# Altium footprint library Main.PcbLib: 19 footprints (part 1 of 2)
Each footprint in its own frame and in the unit in brackets; x right, y up, seen from the top. Pads: shape width x height; smd on the part's side, far side on the other; paste and mask are expansions set on the pad; w line width, h text height; cw(c..) or ccw(c..) is an arc to the next point about the centre after c.
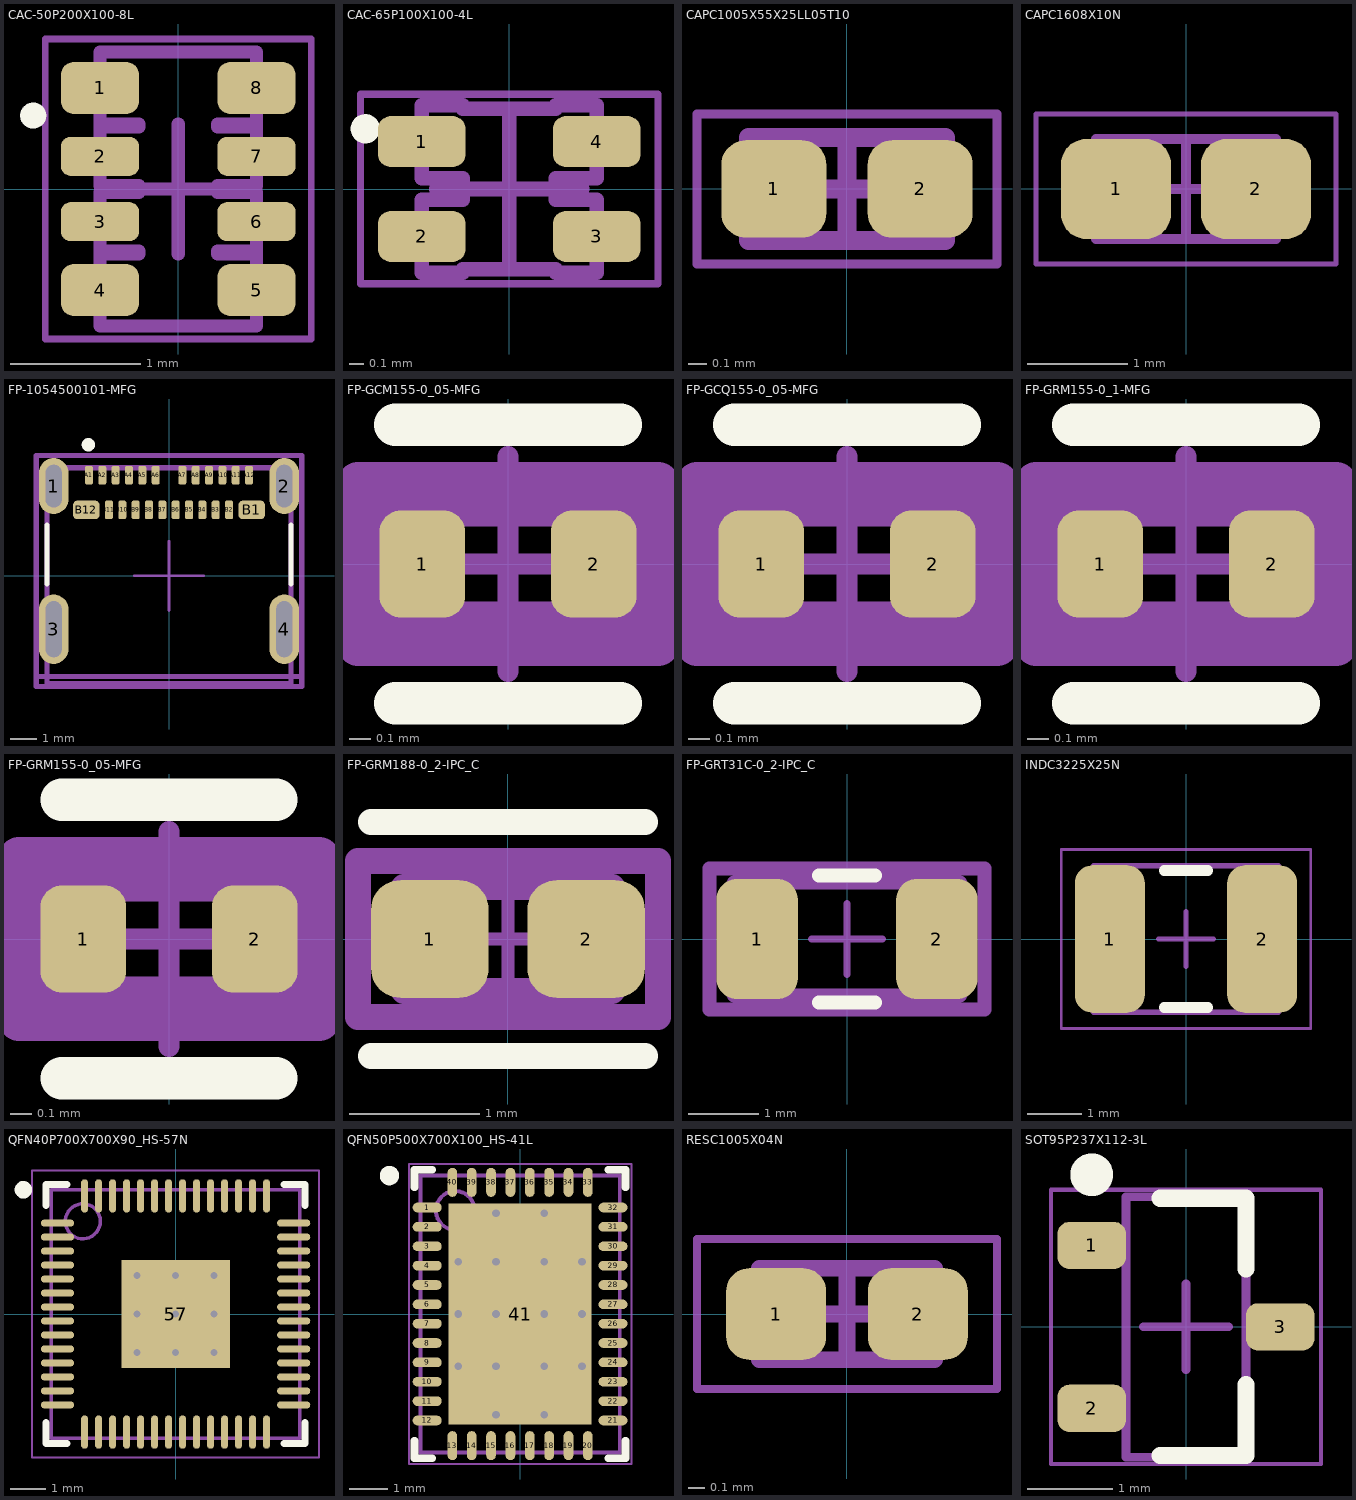
[diagram p0: the footprints below, top view; thin cyan lines are the x and y axes]

## CAC-50P200X100-8L [mm] "Chip Array, ConvexS, 8-Leads, Pitch 0.50mm,  Body 2.00x1.00mm,  IPC High Density"
height 0.45
pads (8):
  rrect50% 0.6x0.4 smd: 1(-0.6,0.775) 4(-0.6,-0.775) 5(0.6,-0.775) 8(0.6,0.775)
  rrect50% 0.6x0.3 smd: 2(-0.6,0.25) 3(-0.6,-0.25) 6(0.6,-0.25) 7(0.6,0.25)
Top Overlay:
  circle w0.1: c-1.112,0.563 r0.05
Top Assembly:
  lines w0.1: -0.6,-1.05 -0.6,-0.5 -0.3,-0.5 -0.3,-0.475 -0.6,-0.475 -0.6,-0.025 -0.3,-0.025 -0.3,0.025 -0.6,0.025 -0.6,0.475 -0.3,0.475 -0.3,0.5 -0.6,0.5 -0.6,1.05 0.6,1.05 0.6,0.5 0.3,0.5 0.3,0.475 0.6,0.475 0.6,0.025 0.3,0.025 0.3,-0.025 0.6,-0.025 0.6,-0.475 0.3,-0.475 0.3,-0.5 0.6,-0.5 0.6,-1.05 -0.6,-1.05
Top Courtyard:
  lines w0.05: -1.02,-1.15 -1.02,1.15 1.02,1.15 1.02,-1.15 -1.02,-1.15
  lines w0.1: -0.5,0 0.5,0 ; 0,-0.5 0,0.5
3D body "CAC-50P200X100-8L.step": height 0.45, standoff 0, extent -0.6,-1.05 0.6,1.05

## CAC-65P100X100-4L [mm] "Chip Array, ConvexE, 4-Leads, Pitch 0.65mm,  Body 1.00x1.00mm,  IPC High Density"
height 0.45
pads (4):
  rrect50% 0.6x0.35 smd: 1(-0.6,0.325) 2(-0.6,-0.325) 3(0.6,-0.325) 4(0.6,0.325)
Top Overlay:
  circle w0.1: c-0.987,0.413 r0.05
Top Assembly:
  lines w0.1: -0.6,-0.575 -0.6,-0.075 -0.32,-0.075 -0.32,0.075 -0.6,0.075 -0.6,0.575 -0.32,0.575 -0.32,0.55 0.32,0.55 0.32,0.575 0.6,0.575 0.6,0.075 0.32,0.075 0.32,-0.075 0.6,-0.075 0.6,-0.575 0.32,-0.575 0.32,-0.55 -0.32,-0.55 -0.32,-0.575 -0.6,-0.575
Top Courtyard:
  lines w0.05: -1.02,-0.65 -1.02,0.65 1.02,0.65 1.02,-0.65 -1.02,-0.65
  lines w0.1: -0.5,0 0.5,0 ; 0,-0.5 0,0.5
3D body "CAC-65P100X100-4L.step": height 0.45, standoff 0, extent -0.6,-0.55 0.6,0.55

## CAPC1005X55X25LL05T10 [mm] "Chip Capacitor, 2-Leads, Body 1.00x0.50mm, IPC High Density"
height 0.55
pads (2):
  rrect50% 0.56x0.52 smd: 1(-0.39,0) 2(0.39,0)
Mechanical 13:
  lines w0.1: -0.525,-0.275 0.525,-0.275 0.525,0.275 -0.525,0.275 -0.525,-0.275
Mechanical 15:
  lines w0.05: -0.8,-0.4 0.8,-0.4 0.8,0.4 -0.8,0.4 -0.8,-0.4
  lines w0.1: -0.275,0 0.275,0 ; 0,-0.275 0,0.275
3D body: height 0.55, standoff 0, extent 0.275,-0.275 0.525,0.275
3D body: height 0.55, standoff 0, extent -0.525,-0.275 -0.275,0.275
3D body: height 0.55, standoff 0, extent -0.275,-0.275 0.275,0.275

## CAPC1608X10N [mm] "Chip Capacitor, 2-Leads, Body 1.60x0.80mm, IPC Medium Density"
height 1
pads (2):
  rrect50% 1.1x1 smd: 1(-0.7,0) 2(0.7,0)
Top Assembly:
  lines w0.1: -0.9,-0.5 0.9,-0.5 0.9,0.5 -0.9,0.5 -0.9,-0.5
Top Courtyard:
  lines w0.05: -1.5,-0.75 1.5,-0.75 1.5,0.75 -1.5,0.75 -1.5,-0.75
  lines w0.1: -0.5,0 0.5,0 ; 0,-0.5 0,0.5
3D body "CAPC1608X10N.step": height 1, standoff 0, extent -0.9,-0.5 0.9,0.5

## FP-1054500101-MFG [mm]
pads (28):
  rrect100% 1.1x2.1 hole 1.6 slot 0.6 at 0 deg paste-1000 mask+0: 1(-4.32,3.36) 2(4.32,3.36)
  rrect100% 1.1x2.6 hole 2.1 slot 0.6 at 0 deg paste-1000 mask+0: 3(-4.32,-2) 4(4.32,-2)
  rrect50% 0.3x0.7 smd paste+0 mask+0: A1(-3,3.77) A2(-2.5,3.77) A3(-2,3.77) A4(-1.5,3.77) A5(-1,3.77) A6(-0.5,3.77) A7(0.5,3.77) A8(1,3.77) A9(1.5,3.77) A10(2,3.77) A11(2.5,3.77) A12(3,3.77) B2(2.25,2.47) B3(1.75,2.47) B4(1.25,2.47) B5(0.75,2.47) B6(0.25,2.47) B7(-0.25,2.47) B8(-0.75,2.47) B9(-1.25,2.47) B10(-1.75,2.47) B11(-2.25,2.47)
  rrect50% 1x0.7 smd paste+0 mask+0: B1(3.1,2.47) B12(-3.1,2.47)
Top Overlay:
  circle w0.25: c-3.02,4.91 r0.125
  lines w0.2: -4.57,-0.3 -4.57,1.9 ; 4.57,-0.3 4.57,1.9
Top 3D Body:
  lines w0.2: -4.97,-3.77 4.97,-3.77 ; -4.57,-4.05 -4.57,4.05 4.57,4.05 4.57,-4.05 -4.57,-4.05
Top Assembly:
  lines w0.2: -4.97,-4.15 -4.97,4.51 4.97,4.51 4.97,-4.15 -4.97,-4.15
Top Courtyard:
  lines w0.2: -4.97,-4.15 -4.97,4.51 4.97,4.51 4.97,-4.15 -4.97,-4.15
Top Component Center:
  lines w0.1: -1.299,0 1.299,0 ; 0,-1.299 0,1.299
3D body "1054500101.stp": height 3.23, standoff -0.73, extent -4.47,-3.9 4.47,4

## FP-GCM155-0_05-MFG [mm]
pads (2):
  rrect50% 0.4x0.5 smd paste+0 mask+0: 1(-0.4,0) 2(0.4,0)
Top Overlay:
  lines w0.2: -0.525,-0.65 0.525,-0.65 ; -0.525,0.65 0.525,0.65
Top 3D Body:
  lines w0.2: -0.525,-0.275 -0.525,0.275 0.525,0.275 0.525,-0.275 -0.525,-0.275
Top Assembly:
  lines w0.2: -0.7,-0.375 -0.7,0.375 0.7,0.375 0.7,-0.375 -0.7,-0.375
Top Courtyard:
  lines w0.2: -0.7,-0.375 -0.7,0.375 0.7,0.375 0.7,-0.375 -0.7,-0.375
Top Component Center:
  lines w0.1: -0.5,0 0.5,0 ; 0,-0.5 0,0.5
3D body "Cap_Murata_GCM155R71H271KA37D_eec.STEP": height 0.25, standoff 0, extent -0.7,-0.375 0.7,0.375

## FP-GCQ155-0_05-MFG [mm]
pads (2):
  rrect50% 0.4x0.5 smd paste+0 mask+0: 1(-0.4,0) 2(0.4,0)
Top Overlay:
  lines w0.2: -0.525,-0.65 0.525,-0.65 ; -0.525,0.65 0.525,0.65
Top 3D Body:
  lines w0.2: -0.525,-0.275 0.525,-0.275 0.525,0.275 -0.525,0.275 -0.525,-0.275
Top Assembly:
  lines w0.2: -0.7,-0.375 0.7,-0.375 0.7,0.375 -0.7,0.375 -0.7,-0.375
Top Courtyard:
  lines w0.2: -0.7,-0.375 0.7,-0.375 0.7,0.375 -0.7,0.375 -0.7,-0.375
Top Component Center:
  lines w0.1: -0.5,0 0.5,0 ; 0,-0.5 0,0.5
3D body "Cap_Murata_GCQ1555C1H3R4CB01J_eec.STEP": height 0.25, standoff 0, extent -0.7,-0.375 0.7,0.375

## FP-GRM155-0_1-MFG [mm]
pads (2):
  rrect50% 0.4x0.5 smd paste+0 mask+0: 1(-0.4,0) 2(0.4,0)
Top Overlay:
  lines w0.2: -0.525,-0.65 0.525,-0.65 ; -0.525,0.65 0.525,0.65
Top 3D Body:
  lines w0.2: -0.525,-0.275 0.525,-0.275 0.525,0.275 -0.525,0.275 -0.525,-0.275
Top Assembly:
  lines w0.2: -0.7,-0.375 0.7,-0.375 0.7,0.375 -0.7,0.375 -0.7,-0.375
Top Courtyard:
  lines w0.2: -0.7,-0.375 0.7,-0.375 0.7,0.375 -0.7,0.375 -0.7,-0.375
Top Component Center:
  lines w0.1: -0.5,0 0.5,0 ; 0,-0.5 0,0.5
3D body "Cap_Murata_GRM155C81E105KE11D_eec.STEP": height 0.25, standoff 0, extent -0.7,-0.375 0.7,0.375

## FP-GRM155-0_05-MFG [mm]
pads (2):
  rrect50% 0.4x0.5 smd paste+0 mask+0: 1(-0.4,0) 2(0.4,0)
Top Overlay:
  lines w0.2: -0.5,-0.65 0.5,-0.65 ; -0.5,0.65 0.5,0.65
Top 3D Body:
  lines w0.2: -0.525,-0.275 -0.525,0.275 0.525,0.275 0.525,-0.275 -0.525,-0.275
Top Assembly:
  lines w0.2: -0.7,-0.375 -0.7,0.375 0.7,0.375 0.7,-0.375 -0.7,-0.375
Top Courtyard:
  lines w0.2: -0.7,-0.375 -0.7,0.375 0.7,0.375 0.7,-0.375 -0.7,-0.375
Top Component Center:
  lines w0.1: -0.5,0 0.5,0 ; 0,-0.5 0,0.5
3D body "Cap_Murata_GRM1552C1H271GA01J_eec.STEP": height 0.25, standoff 0, extent -0.7,-0.375 0.7,0.375

## FP-GRM188-0_2-IPC_C [mm]
pads (2):
  rrect50% 0.905x0.906 smd paste+0 mask+0: 1(-0.601,0) 2(0.601,0)
Top Overlay:
  lines w0.2: -1.053,-0.9 1.053,-0.9 ; -1.053,0.9 1.053,0.9
Top 3D Body:
  lines w0.2: -0.8,-0.4 -0.8,0.4 0.8,0.4 0.8,-0.4 -0.8,-0.4
Top Assembly:
  lines w0.2: -1.153,-0.6 -1.153,0.6 1.153,0.6 1.153,-0.6 -1.153,-0.6
Top Courtyard:
  lines w0.2: -1.153,-0.6 -1.153,0.6 1.153,0.6 1.153,-0.6 -1.153,-0.6
Top Component Center:
  lines w0.1: -0.5,0 0.5,0 ; 0,-0.5 0,0.5
3D body "Cap_Murata_GRM188C71C225KE11D_eec.STEP": height 0.25, standoff 0, extent -1.153,-0.6 1.153,0.6

## FP-GRT31C-0_2-IPC_C [mm]
pads (2):
  rrect50% 1.155x1.706 smd paste+0 mask+0: 1(-1.276,0) 2(1.276,0)
Top Overlay:
  lines w0.2: -0.398,-0.9 0.398,-0.9 ; -0.398,0.9 0.398,0.9
Top 3D Body:
  lines w0.2: -1.6,-0.8 1.6,-0.8 1.6,0.8 -1.6,0.8 -1.6,-0.8
Top Assembly:
  lines w0.2: -1.953,-1 1.953,-1 1.953,1 -1.953,1 -1.953,-1
Top Courtyard:
  lines w0.2: -1.953,-1 1.953,-1 1.953,1 -1.953,1 -1.953,-1
Top Component Center:
  lines w0.1: -0.5,0 0.5,0 ; 0,-0.5 0,0.5
3D body "Cap_Murata_GRT31CC80J476KE13L_eec.STEP": height 0.25, standoff 0, extent -1.953,-1 1.953,1

## INDC3225X25N [mm] "Chip Inductor, 2-Leads, Body 3.20x2.50mm, IPC Medium Density"
height 2.5
pads (2):
  rrect50% 1.29x2.72 smd: 1(-1.405,0) 2(1.405,0)
Top Overlay:
  lines w0.2: -0.4,-1.26 0.4,-1.26 ; -0.4,1.26 0.4,1.26
Mechanical 13:
  lines w0.1: -1.7,-1.35 -1.7,1.35 1.7,1.35 1.7,-1.35 -1.7,-1.35
Mechanical 15:
  lines w0.05: -2.3,-1.65 -2.3,1.65 2.3,1.65 2.3,-1.65 -2.3,-1.65
  lines w0.1: -0.5,0 0.5,0 ; 0,-0.5 0,0.5
3D body "INDC3225X25N.step": height 2.5, standoff 0, extent -1.7,-1.35 1.7,1.35

## QFN40P700X700X90_HS-57N [mm] "QFN, 56-Leads, Body 7.00x7.00mm, Pitch 0.40mm, Thermal Pad 3.10x3.10mm, IPC Medium Density"
height 0.9
pads (57):
  oval 0.95x0.2 smd: 1(-3.375,2.6) 2(-3.375,2.2) 3(-3.375,1.8) 4(-3.375,1.4) 5(-3.375,1) 6(-3.375,0.6) 7(-3.375,0.2) 8(-3.375,-0.2) 9(-3.375,-0.6) 10(-3.375,-1) 11(-3.375,-1.4) 12(-3.375,-1.8) 13(-3.375,-2.2) 14(-3.375,-2.6) 29(3.375,-2.6) 30(3.375,-2.2) 31(3.375,-1.8) 32(3.375,-1.4) 33(3.375,-1) 34(3.375,-0.6) 35(3.375,-0.2) 36(3.375,0.2) 37(3.375,0.6) 38(3.375,1) 39(3.375,1.4) 40(3.375,1.8) 41(3.375,2.2) 42(3.375,2.6)
  oval 0.2x0.95 smd: 15(-2.6,-3.375) 16(-2.2,-3.375) 17(-1.8,-3.375) 18(-1.4,-3.375) 19(-1,-3.375) 20(-0.6,-3.375) 21(-0.2,-3.375) 22(0.2,-3.375) 23(0.6,-3.375) 24(1,-3.375) 25(1.4,-3.375) 26(1.8,-3.375) 27(2.2,-3.375) 28(2.6,-3.375) 43(2.6,3.375) 44(2.2,3.375) 45(1.8,3.375) 46(1.4,3.375) 47(1,3.375) 48(0.6,3.375) 49(0.2,3.375) 50(-0.2,3.375) 51(-0.6,3.375) 52(-1,3.375) 53(-1.4,3.375) 54(-1.8,3.375) 55(-2.2,3.375) 56(-2.6,3.375)
  rect 3.1x3.1 smd paste-2539.97: 57(0,0)
via 1.1,-1.1 diameter 0.5 hole 0.2
via 0,-1.1 diameter 0.5 hole 0.2
via -1.1,-1.1 diameter 0.5 hole 0.2
via 1.1,0 diameter 0.5 hole 0.2
via 0,0 diameter 0.5 hole 0.2
via -1.1,0 diameter 0.5 hole 0.2
via 1.1,1.1 diameter 0.5 hole 0.2
via 0,1.1 diameter 0.5 hole 0.2
via -1.1,1.1 diameter 0.5 hole 0.2
Top Overlay:
  circle w0.25: c-4.35,3.55 r0.125
  lines w0.2: -3.7,-3.1 -3.7,-3.7 -3.1,-3.7 ; -3.7,3.1 -3.7,3.7 -3.1,3.7 ; 3.1,-3.7 3.7,-3.7 3.7,-3.1 ; 3.1,3.7 3.7,3.7 3.7,3.1
Top Paste:
  rectangle: -1.5,0.1 -0.1,1.5
  rectangle: 0.1,0.1 1.5,1.5
  rectangle: 0.1,-1.5 1.5,-0.1
  rectangle: -1.5,-1.5 -0.1,-0.1
Mechanical 13:
  circle w0.1: c-2.65,2.65 r0.5
  lines w0.1: -3.55,-3.55 3.55,-3.55 3.55,3.55 -3.55,3.55 -3.55,-3.55
Mechanical 15:
  lines w0.05: -4.1,-4.1 4.1,-4.1 4.1,4.1 -4.1,4.1 -4.1,-4.1
  lines w0.1: -0.5,0 0.5,0 ; 0,-0.5 0,0.5
3D body "QFN40P700X700X90_HS-57N.step": height 0.9, standoff 0, extent -3.551,-3.551 3.551,3.551

## QFN50P500X700X100_HS-41L [mm] "QFN, 40-Leads, Body 5.00x7.00mm, Pitch 0.50mm, Thermal Pad 3.70x5.70mm, IPC High Density"
height 1
pads (41):
  oval 0.75x0.25 smd paste-0.05 mask+0.07: 1(-2.4,2.75) 2(-2.4,2.25) 3(-2.4,1.75) 4(-2.4,1.25) 5(-2.4,0.75) 6(-2.4,0.25) 7(-2.4,-0.25) 8(-2.4,-0.75) 9(-2.4,-1.25) 10(-2.4,-1.75) 11(-2.4,-2.25) 12(-2.4,-2.75) 21(2.4,-2.75) 22(2.4,-2.25) 23(2.4,-1.75) 24(2.4,-1.25) 25(2.4,-0.75) 26(2.4,-0.25) 27(2.4,0.25) 28(2.4,0.75) 29(2.4,1.25) 30(2.4,1.75) 31(2.4,2.25) 32(2.4,2.75)
  oval 0.25x0.75 smd paste-0.05 mask+0.07: 13(-1.75,-3.4) 14(-1.25,-3.4) 15(-0.75,-3.4) 16(-0.25,-3.4) 17(0.25,-3.4) 18(0.75,-3.4) 19(1.25,-3.4) 20(1.75,-3.4) 33(1.75,3.4) 34(1.25,3.4) 35(0.75,3.4) 36(0.25,3.4) 37(-0.25,3.4) 38(-0.75,3.4) 39(-1.25,3.4) 40(-1.75,3.4)
  rect 3.7x5.7 all layers, no hole paste-2.85 mask+0.07: 41(0,0)
via 1.6,-1.35 diameter 0.2 hole 0.2
via 1.6,0 diameter 0.2 hole 0.2
via 1.6,1.35 diameter 0.2 hole 0.2
via 0.625,2.6 diameter 0.2 hole 0.2
via 0.625,1.35 diameter 0.2 hole 0.2
via 0.625,0 diameter 0.2 hole 0.2
via 0.625,-1.35 diameter 0.2 hole 0.2
via -0.625,-2.6 diameter 0.2 hole 0.2
via 0.625,-2.6 diameter 0.2 hole 0.2
via -1.6,-1.35 diameter 0.2 hole 0.2
via -1.6,0 diameter 0.2 hole 0.2
via -1.6,1.35 diameter 0.2 hole 0.2
via -0.625,1.35 diameter 0.2 hole 0.2
via -0.625,0 diameter 0.2 hole 0.2
via -0.625,-1.35 diameter 0.2 hole 0.2
via -0.625,2.6 diameter 0.2 hole 0.2
Top Overlay:
  circle w0.25: c-3.375,3.575 r0.125
  lines w0.2: -2.725,-3.275 -2.725,-3.725 -2.275,-3.725 ; -2.725,3.275 -2.725,3.725 -2.275,3.725 ; 2.275,-3.725 2.725,-3.725 2.725,-3.275 ; 2.275,3.725 2.725,3.725 2.725,3.275
Top Paste:
  rectangle: 0.725,-2.6 1.775,-1.45
  rectangle: -0.525,-2.6 0.525,-1.45
  region: -0.725,-1.45 -1.775,-1.45 -1.775,-2.6 -0.725,-2.6
  region: -0.725,-0.1 -1.775,-0.1 -1.775,-1.25 -0.725,-1.25
  rectangle: -0.525,-1.25 0.525,-0.1
  rectangle: 0.725,-1.25 1.775,-0.1
  rectangle: 0.725,0.1 1.775,1.25
  rectangle: -0.525,0.1 0.525,1.25
  region: -0.725,1.25 -1.775,1.25 -1.775,0.1 -0.725,0.1
  region: -0.725,2.6 -1.775,2.6 -1.775,1.45 -0.725,1.45
  rectangle: -0.525,1.45 0.525,2.6
  rectangle: 0.725,1.45 1.775,2.6
Mechanical 13:
  circle w0.1: c-1.675,2.675 r0.5
  lines w0.1: -2.575,-3.575 2.575,-3.575 2.575,3.575 -2.575,3.575 -2.575,-3.575
Mechanical 15:
  lines w0.05: -2.875,-3.875 2.875,-3.875 2.875,3.875 -2.875,3.875 -2.875,-3.875
  lines w0.1: -0.5,0 0.5,0 ; 0,-0.5 0,0.5
3D body "QFN50P500X700X100_HS-41L.step": height 1, standoff 0, extent -2.655,-3.655 2.655,3.655

## RESC1005X04N [mm] "Chip Resistor, 2-Leads, Body 1.00x0.50mm, IPC Medium Density"
height 0.35
pads (2):
  rrect50% 0.6x0.55 smd: 1(-0.425,0) 2(0.425,0)
Top Assembly:
  lines w0.1: -0.525,-0.275 -0.525,0.275 0.525,0.275 0.525,-0.275 -0.525,-0.275
Top Courtyard:
  lines w0.05: -0.9,-0.45 -0.9,0.45 0.9,0.45 0.9,-0.45 -0.9,-0.45
  lines w0.1: -0.275,0 0.275,0 ; 0,-0.275 0,0.275
3D body "RESC1005X04N.step": height 0.35, standoff 0, extent -0.525,-0.275 0.525,0.275

## SOT95P237X112-3L [mm] "SOT23, 3-Leads, Body 2.92x2.37mm, Pitch 0.95mm, IPC High Density"
height 1.12
pads (3):
  rrect50% 0.8x0.55 smd: 1(-1.1,0.95) 2(-1.1,-0.95) 3(1.1,0)
Top Overlay:
  circle w0.25: c-1.1,1.775 r0.125
  lines w0.2: -0.3,-1.5 0.7,-1.5 0.7,-0.675 ; -0.3,1.5 0.7,1.5 0.7,0.675
Top Assembly:
  lines w0.1: -0.7,-1.52 0.7,-1.52 0.7,1.52 -0.7,1.52 -0.7,-1.52
Top Courtyard:
  lines w0.05: -1.575,-1.6 1.575,-1.6 1.575,1.6 -1.575,1.6 -1.575,-1.6
  lines w0.1: -0.5,0 0.5,0 ; 0,-0.5 0,0.5
3D body "SOT95P237X112-3L.step": height 1.12, standoff 0, extent -1.32,-1.52 1.32,1.52